# EAGLE library part MEGADRIVE-CART-CONNECTOR (library arcadetv)
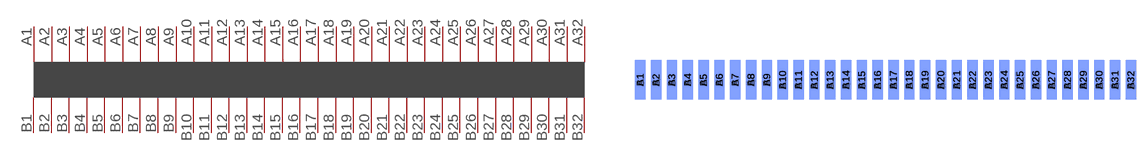
[diagram p1: symbol with the pads of MEGADRIVE-CART-CONNECTOR; footprint MEGADRIVE-CART-CONNECTOR]

Designator prefix -

## MEGADRIVE-CART-CONNECTOR  [MEGADRIVE-CART-CONNECTOR]
A1  P$33
A2  P$34
A3  P$35
A4  P$36
A5  P$37
A6  P$38
A7  P$39
A8  P$40
A9  P$41
A10  P$42
A11  P$43
A12  P$44
A13  P$45
A14  P$46
A15  P$47
A16  P$48
A17  P$49
A18  P$50
A19  P$51
A20  P$52
A21  P$53
A22  P$54
A23  P$55
A24  P$56
A25  P$57
A26  P$58
A27  P$59
A28  P$60
A29  P$61
A30  P$62
A31  P$63
A32  P$64
B1  P$1
B2  P$2
B3  P$3
B4  P$4
B5  P$5
B6  P$6
B7  P$7
B8  P$8
B9  P$9
B10  P$10
B11  P$11
B12  P$12
B13  P$13
B14  P$14
B15  P$15
B16  P$16
B17  P$17
B18  P$18
B19  P$19
B20  P$20
B21  P$21
B22  P$22
B23  P$23
B24  P$24
B25  P$25
B26  P$26
B27  P$27
B28  P$28
B29  P$29
B30  P$30
B31  P$31
B32  P$32

## Footprint MEGADRIVE-CART-CONNECTOR (pad centres in mm)
smd 1.676 x 6.35 bottom: A1 0.838,3.175; A2 3.378,3.175; A3 5.918,3.175; A4 8.458,3.175; A5 10.998,3.175; A6 13.538,3.175; A7 16.078,3.175; A8 18.618,3.175; A9 21.158,3.175; A10 23.698,3.175; A11 26.238,3.175; A12 28.778,3.175; A13 31.318,3.175; A14 33.858,3.175; A15 36.398,3.175; A16 38.938,3.175; A17 41.478,3.175; A18 44.018,3.175; A19 46.558,3.175; A20 49.098,3.175; A21 51.638,3.175; A22 54.178,3.175; A23 56.718,3.175; A24 59.258,3.175; A25 61.798,3.175; A26 64.338,3.175; A27 66.878,3.175; A28 69.418,3.175; A29 71.958,3.175; A30 74.498,3.175; A31 77.038,3.175; A32 79.578,3.175
smd 1.676 x 6.35: B1 0.838,3.175; B2 3.378,3.175; B3 5.918,3.175; B4 8.458,3.175; B5 10.998,3.175; B6 13.538,3.175; B7 16.078,3.175; B8 18.618,3.175; B9 21.158,3.175; B10 23.698,3.175; B11 26.238,3.175; B12 28.778,3.175; B13 31.318,3.175; B14 33.858,3.175; B15 36.398,3.175; B16 38.938,3.175; B17 41.478,3.175; B18 44.018,3.175; B19 46.558,3.175; B20 49.098,3.175; B21 51.638,3.175; B22 54.178,3.175; B23 56.718,3.175; B24 59.258,3.175; B25 61.798,3.175; B26 64.338,3.175; B27 66.878,3.175; B28 69.418,3.175; B29 71.958,3.175; B30 74.498,3.175; B31 77.038,3.175; B32 79.578,3.175